# Altium schematic symbol library 7M-16.000MAAJ-T.SchLib: 1 symbol
Pins are listed as number, name and electrical type; pins without a type are passive.

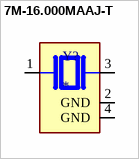
[diagram p0: symbol 7M-16.000MAAJ-T]

## 7M-16.000MAAJ-T
designator Y?
16 MHz ±30ppm Crystal 18pF 80 Ohms 4-SMD, No Lead; MF: TXC CORPORATION; MP: 7M-16.000MAAJ-T; SnapEDA_Link: https://www.snapeda.com/parts/7M-16.000MAAJ-T/TXC+CORPORATION/view-part/?ref=snap; Package: NON STANDARD-4 TXC; Value: *; Check_prices: https://www.snapeda.com/parts/7M-16.000MAAJ-T/TXC+CORPORATION/view-part/?ref=eda
footprint XTAL_7M-16.000MAAJ-T
pins: 1, 2 GND (power), 3 2, 4 GND (power)